# Altium footprint library ESK116V_Series.PcbLib: 1 footprints
Each footprint in its own frame and in the unit in brackets; x right, y up, seen from the top. Pads: shape width x height; smd on the part's side, far side on the other; paste and mask are expansions set on the pad; w line width, h text height; cw(c..) or ccw(c..) is an arc to the next point about the centre after c.
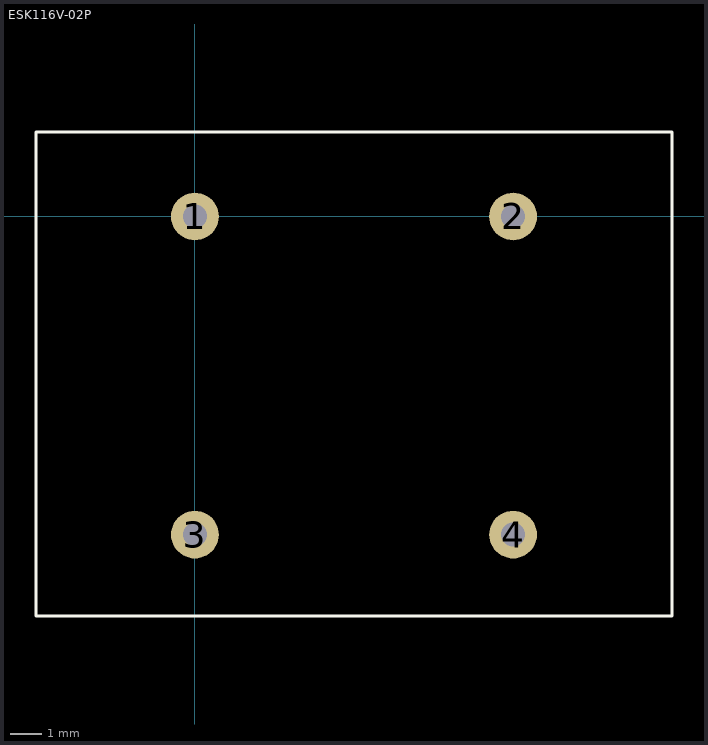
[diagram p0: the footprint, top view; thin cyan lines are the x and y axes]

## ESK116V-02P [mil]
pads (4):
  round 60 hole 30: 1(0,0) 2(400,0) 3(0,-400) 4(400,-400)
Top Overlay:
  lines w3.94: -200,-502.36 600,-502.36 600,106.3 -200,106.3 -200,-502.36